# Altium footprint library Murata.PcbLib: 4 footprints
Each footprint in its own frame and in the unit in brackets; x right, y up, seen from the top. Pads: shape width x height; smd on the part's side, far side on the other; paste and mask are expansions set on the pad; w line width, h text height; cw(c..) or ccw(c..) is an arc to the next point about the centre after c.
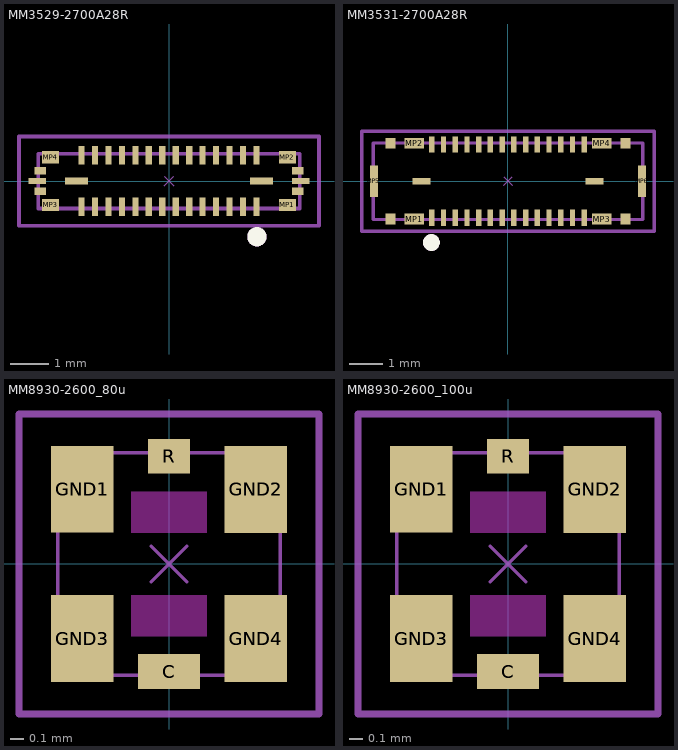
[diagram p0: the footprints below, top view; thin cyan lines are the x and y axes]

## MM3529-2700A28R [mm] "RF / Microwave Multi Line Connectors / (Board-to-board / board-to-FPC connectors)"
pads (40):
  rect 0.16x0.48 smd paste-2539.97 mask+0: 1(2.275,-0.67) 2(1.925,-0.67) 3(1.575,-0.67) 4(1.225,-0.67) 5(0.875,-0.67) 6(0.525,-0.67) 7(0.175,-0.67) 8(-0.175,-0.67) 9(-0.525,-0.67) 10(-0.875,-0.67) 11(-1.225,-0.67) 12(-1.575,-0.67) 13(-1.925,-0.67) 14(-2.275,-0.67) 15(2.275,0.67) 16(1.925,0.67) 17(1.575,0.67) 18(1.225,0.67) 19(0.875,0.67) 20(0.525,0.67) 21(0.175,0.67) 22(-0.175,0.67) 23(-0.525,0.67) 24(-0.875,0.67) 25(-1.225,0.67) 26(-1.575,0.67) 27(-1.925,0.67) 28(-2.275,0.67)
  rect 0.44x0.32 smd paste-2539.97 mask+0: MP1(3.08,-0.62) MP2(3.08,0.62) MP3(-3.08,-0.62) MP4(-3.08,0.62)
  rect 0.6x0.18 smd paste-2539.97 mask+0: MP5(2.4,0) MP6(-2.4,0)
  rect 0.3x0.19 smd paste-2539.97 mask+0: MP7(3.35,-0.265) MP8(3.35,0.265) MP9(-3.35,-0.265) MP10(-3.35,0.265)
  rect 0.45x0.15 smd paste-2539.97 mask+0: MP11(3.425,0) MP12(-3.425,0)
Top Overlay:
  circle w0.25: c2.286,-1.448 r0.125
Top Paste:
  rectangle: -2.525,-0.075 -2.275,0.075
  rectangle: 2.275,-0.075 2.525,0.075
  rectangle: -3.3,0.49 -3,0.75
  rectangle: -3.3,-0.75 -3,-0.49
  rectangle: 3,0.49 3.3,0.75
  rectangle: 3,-0.75 3.3,-0.49
  rectangle: -3.55,-0.08 -3.25,0.08
  rectangle: 3.25,-0.08 3.55,0.08
  rectangle: -3.5,0.19 -3.2,0.34
  rectangle: -3.5,-0.34 -3.2,-0.19
  rectangle: 3.2,0.19 3.5,0.34
  rectangle: 3.2,-0.34 3.5,-0.19
  rectangle: -2.355,-0.85 -2.195,-0.56
  rectangle: -2.005,-0.85 -1.845,-0.56
  rectangle: -1.655,-0.85 -1.495,-0.56
  rectangle: -1.305,-0.85 -1.145,-0.56
  rectangle: -0.955,-0.85 -0.795,-0.56
  rectangle: 0.445,-0.85 0.605,-0.56
  rectangle: 0.795,-0.85 0.955,-0.56
  rectangle: 1.145,-0.85 1.305,-0.56
  rectangle: 1.495,-0.85 1.655,-0.56
  rectangle: 1.845,-0.85 2.005,-0.56
  rectangle: 2.195,-0.85 2.355,-0.56
  rectangle: 0.095,-0.85 0.255,-0.56
  rectangle: -0.255,-0.85 -0.095,-0.56
  rectangle: -0.605,-0.85 -0.445,-0.56
  rectangle: -2.355,0.56 -2.195,0.85
  rectangle: -2.005,0.56 -1.845,0.85
  rectangle: -1.655,0.56 -1.495,0.85
  rectangle: -1.305,0.56 -1.145,0.85
  rectangle: -0.955,0.56 -0.795,0.85
  rectangle: 0.445,0.56 0.605,0.85
  rectangle: 0.795,0.56 0.955,0.85
  rectangle: 1.145,0.56 1.305,0.85
  rectangle: 1.495,0.56 1.655,0.85
  rectangle: 1.845,0.56 2.005,0.85
  rectangle: 2.195,0.56 2.355,0.85
  rectangle: 0.095,0.56 0.255,0.85
  rectangle: -0.255,0.56 -0.095,0.85
  rectangle: -0.605,0.56 -0.445,0.85
Top Assembly:
  circle w0.25: c2.286,-1.448 r0.125
  lines w0.1: -3.4,-0.71 -3.4,0.71 3.4,0.71 3.4,-0.71 -3.4,-0.71
  text ".Designator" at -3.43,-0.344 h1.52
Top Courtyard:
  lines w0.025: -0.127,-0.127 0.127,0.127 ; -0.127,0.127 0.127,-0.127
  lines w0.1: -3.9,-1.16 3.9,-1.16 3.9,1.16 -3.9,1.16 -3.9,-1.16

## MM3531-2700A28R [mm] "RF / Microwave Multi Line Connectors / (Board-to-board / board-to-FPC connectors)"
pads (40):
  rect 0.16x0.49 smd paste-2539.97 mask+0: 1(-2.275,-1.095) 2(-1.925,-1.095) 3(-1.575,-1.095) 4(-1.225,-1.095) 5(-0.875,-1.095) 6(-0.525,-1.095) 7(-0.175,-1.095) 8(0.175,-1.095) 9(0.525,-1.095) 10(0.875,-1.095) 11(1.225,-1.095) 12(1.575,-1.095) 13(1.925,-1.095) 14(2.275,-1.095) 15(-2.275,1.095) 16(-1.925,1.095) 17(-1.575,1.095) 18(-1.225,1.095) 19(-0.875,1.095) 20(-0.525,1.095) 21(-0.175,1.095) 22(0.175,1.095) 23(0.525,1.095) 24(0.875,1.095) 25(1.225,1.095) 26(1.575,1.095) 27(1.925,1.095) 28(2.275,1.095)
  rect 0.585x0.32 smd paste-2539.97 mask+0: MP1(-2.802,-1.13) MP2(-2.802,1.13) MP3(2.803,-1.13) MP4(2.802,1.13)
  rect 0.23x0.95 smd paste-2539.97 mask+0: MP5(-4,0) MP6(4,0)
  rect 0.3x0.32 smd paste-2539.97 mask+0: MP7(-3.5,-1.13) MP8(-3.5,1.13) MP9(3.5,-1.13) MP10(3.5,1.13)
  rect 0.535x0.2 smd paste-2539.97 mask+0: MP11(-2.578,0) MP12(2.578,0)
Top Overlay:
  circle w0.25: c-2.286,-1.829 r0.125
Top Paste:
  rectangle: -1.655,-1.3 -1.495,-1.01
  rectangle: 2.195,-1.3 2.355,-1.01
  rectangle: 1.845,-1.3 2.005,-1.01
  rectangle: 1.495,-1.3 1.655,-1.01
  rectangle: 1.145,-1.3 1.305,-1.01
  rectangle: 0.795,-1.3 0.955,-1.01
  rectangle: 0.445,-1.3 0.605,-1.01
  rectangle: 0.095,-1.3 0.255,-1.01
  rectangle: -0.255,-1.3 -0.095,-1.01
  rectangle: -0.605,-1.3 -0.445,-1.01
  rectangle: -0.955,-1.3 -0.795,-1.01
  rectangle: -1.305,-1.3 -1.145,-1.01
  rectangle: 2.195,1.01 2.355,1.3
  rectangle: 1.845,1.01 2.005,1.3
  rectangle: 1.495,1.01 1.655,1.3
  rectangle: 1.145,1.01 1.305,1.3
  rectangle: 0.795,1.01 0.955,1.3
  rectangle: 0.445,1.01 0.605,1.3
  rectangle: 0.095,1.01 0.255,1.3
  rectangle: -0.255,1.01 -0.095,1.3
  rectangle: -0.605,1.01 -0.445,1.3
  rectangle: -0.955,1.01 -0.795,1.3
  rectangle: -1.305,1.01 -1.145,1.3
  rectangle: -1.655,1.01 -1.495,1.3
  rectangle: -2.355,-1.3 -2.195,-1.01
  rectangle: -2.355,1.01 -2.195,1.3
  rectangle: -2.005,-1.3 -1.845,-1.01
  rectangle: -2.005,1.01 -1.845,1.3
  rectangle: -3.06,1.01 -2.545,1.29
  rectangle: -3.625,1.01 -3.375,1.29
  rectangle: -2.845,-0.1 -2.545,0.1
  rectangle: -3.06,-1.29 -2.545,-1.01
  rectangle: -3.625,-1.29 -3.375,-1.01
  rectangle: -4.095,-0.475 -3.885,0.475
  rectangle: 3.885,-0.475 4.095,0.475
  rectangle: 3.375,1.01 3.625,1.29
  rectangle: 3.375,-1.29 3.625,-1.01
  rectangle: 2.545,1.01 3.06,1.29
  rectangle: 2.545,-0.1 2.845,0.1
  rectangle: 2.545,-1.29 3.06,-1.01
  lines w0.025: -4.095,-0.475 -4.095,0.475 -3.885,0.475 -3.885,-0.475 -4.095,-0.475 ; 3.885,-0.475 3.885,0.475 4.095,0.475 4.095,-0.475 3.885,-0.475
Top Assembly:
  circle w0.25: c-2.286,-1.829 r0.125
  lines w0.1: -4.015,-1.14 -4.015,1.14 4.015,1.14 4.015,-1.14 -4.015,-1.14
  text ".Designator" at -3.43,-0.344 h1.52
Top Courtyard:
  lines w0.025: -0.127,-0.127 0.127,0.127 ; -0.127,0.127 0.127,-0.127
  lines w0.1: -4.365,-1.49 -4.365,1.49 4.365,1.49 4.365,-1.49 4.015,-1.49 -4.365,-1.49

## MM8930-2600_80u [mm] "SWH Connector Receptacle, Female Socket 50 Ohms Surface Mount Solder"
height 0.7
pads (12):
  rect 0.45x0.25 smd paste-2539.97 mask+0: C(0,-0.775) C(0,-0.775)
  rect 0.45x0.625 smd paste-2539.97 mask+0: GND1(-0.625,0.537) GND1(-0.625,0.537) GND2(0.625,0.537) GND2(0.625,0.537) GND3(-0.625,-0.537) GND3(-0.625,-0.537) GND4(0.625,-0.537) GND4(0.625,-0.537)
  rect 0.3x0.25 smd paste-2539.97 mask+0: R(0,0.775) R(0,0.775)
Top Paste:
  rectangle: 0.55,0.225 0.8,0.849
  rectangle: -0.125,0.65 0.125,0.9
  rectangle: -0.125,-0.9 0.125,-0.65
  region: -0.55,0.849 -0.8,0.849 -0.8,0.225 -0.55,0.225
  rectangle: 0.55,-0.849 0.8,-0.225
  region: -0.55,-0.225 -0.8,-0.225 -0.8,-0.849 -0.55,-0.849
Keep-Out Layer:
  rectangle: -0.273,-0.523 0.273,-0.224
  rectangle: -0.273,0.224 0.273,0.523
Top Assembly:
  lines w0.025: -0.8,-0.8 -0.8,0.8 0.8,0.8 0.8,-0.8 -0.8,-0.8
  text ".Designator" at -3.43,-0.345 h1.52
Top Courtyard:
  lines w0.025: -0.127,-0.127 0.127,0.127 ; -0.127,0.127 0.127,-0.127
  lines w0.05: -1.08,-1.08 1.08,-1.08 1.08,1.079 -1.08,1.079 -1.08,-1.08

## MM8930-2600_100u [mm] "SWH Connector Receptacle, Female Socket 50 Ohms Surface Mount Solder"
height 0.7
pads (12):
  rect 0.45x0.25 smd paste-2539.97 mask+0: C(0,-0.775) C(0,-0.775)
  rect 0.45x0.625 smd paste-2539.97 mask+0: GND1(-0.625,0.537) GND1(-0.625,0.537) GND2(0.625,0.537) GND2(0.625,0.537) GND3(-0.625,-0.537) GND3(-0.625,-0.537) GND4(0.625,-0.537) GND4(0.625,-0.537)
  rect 0.3x0.25 smd paste-2539.97 mask+0: R(0,0.775) R(0,0.775)
Top Paste:
  rectangle: 0.55,0.275 0.8,0.775
  rectangle: 0.55,-0.775 0.8,-0.275
  rectangle: -0.125,0.68 0.125,0.9
  rectangle: -0.125,-0.9 0.125,-0.68
  region: -0.55,0.775 -0.8,0.775 -0.8,0.275 -0.55,0.275
  region: -0.55,-0.275 -0.8,-0.275 -0.8,-0.775 -0.55,-0.775
Keep-Out Layer:
  rectangle: -0.273,-0.523 0.273,-0.224
  rectangle: -0.273,0.224 0.273,0.523
Top Assembly:
  lines w0.025: -0.8,-0.8 -0.8,0.8 0.8,0.8 0.8,-0.8 -0.8,-0.8
  text ".Designator" at -3.43,-0.345 h1.52
Top Courtyard:
  lines w0.025: -0.127,-0.127 0.127,0.127 ; -0.127,0.127 0.127,-0.127
  lines w0.05: -1.08,-1.08 1.08,-1.08 1.08,1.079 -1.08,1.079 -1.08,-1.08